# EAGLE library part STL42P6LLF6 (library STL42P6LLF6)
STMicroelectronics STL42P6LLF6 P-channel MOSFET Transistor, 42 A, -60 V, 8-Pin PowerFLAT Source: Datasheet <https://www.st.com/resource/en/datasheet/stl42p6llf6.pdf>
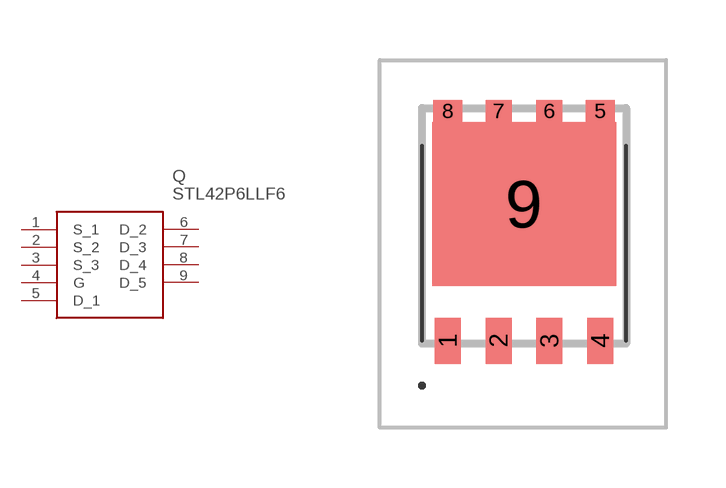
[diagram p0: symbol with the pads of STL42P6LLF6; footprint STL42P6LLF6]

Designator prefix Q

## STL42P6LLF6 (Description: STMicroelectronics STL42P6LLF6 P-channel MOSFET Transistor, 42 A, -60 V, 8-Pin PowerFLAT; Height: 1mm; Manufacturer_Name: STMicroelectronics; Manufacturer_Part_Number: STL42P6LLF6; Mouser_Part_Number: 511-STL42P6LLF6; Mouser_Price-Stock: https://www.mouser.co.uk/ProductDetail/STMicroelectronics/STL42P6LLF6?qs=4b8myOmUP%252Bvt1KYehFRtBw%3D%3D)  [STL42P6LLF6]
1  S_1
2  S_2
3  S_3
4  G
5  D_1
6  D_2
7  D_3
8  D_4
9  D_5

## Footprint STL42P6LLF6 (pad centres in mm)
PowerFLAT 5x6 type R package outline
smd 0.65 x 1.15: 1 -1.905,-2.875; 2 -0.635,-2.875; 3 0.635,-2.875; 4 1.905,-2.875
smd 0.725 x 0.55: 5 1.905,2.875; 8 -1.905,2.875
smd 0.65 x 0.55: 6 0.635,2.875; 7 -0.635,2.875
smd 4.6 x 4.1: 9 0,0.55